# Altium footprint library FP-Mechanical.PcbLib: 31 footprints (part 2 of 2)
Each footprint in its own frame and in the unit in brackets; x right, y up, seen from the top. Pads: shape width x height; smd on the part's side, far side on the other; paste and mask are expansions set on the pad; w line width, h text height; cw(c..) or ccw(c..) is an arc to the next point about the centre after c.
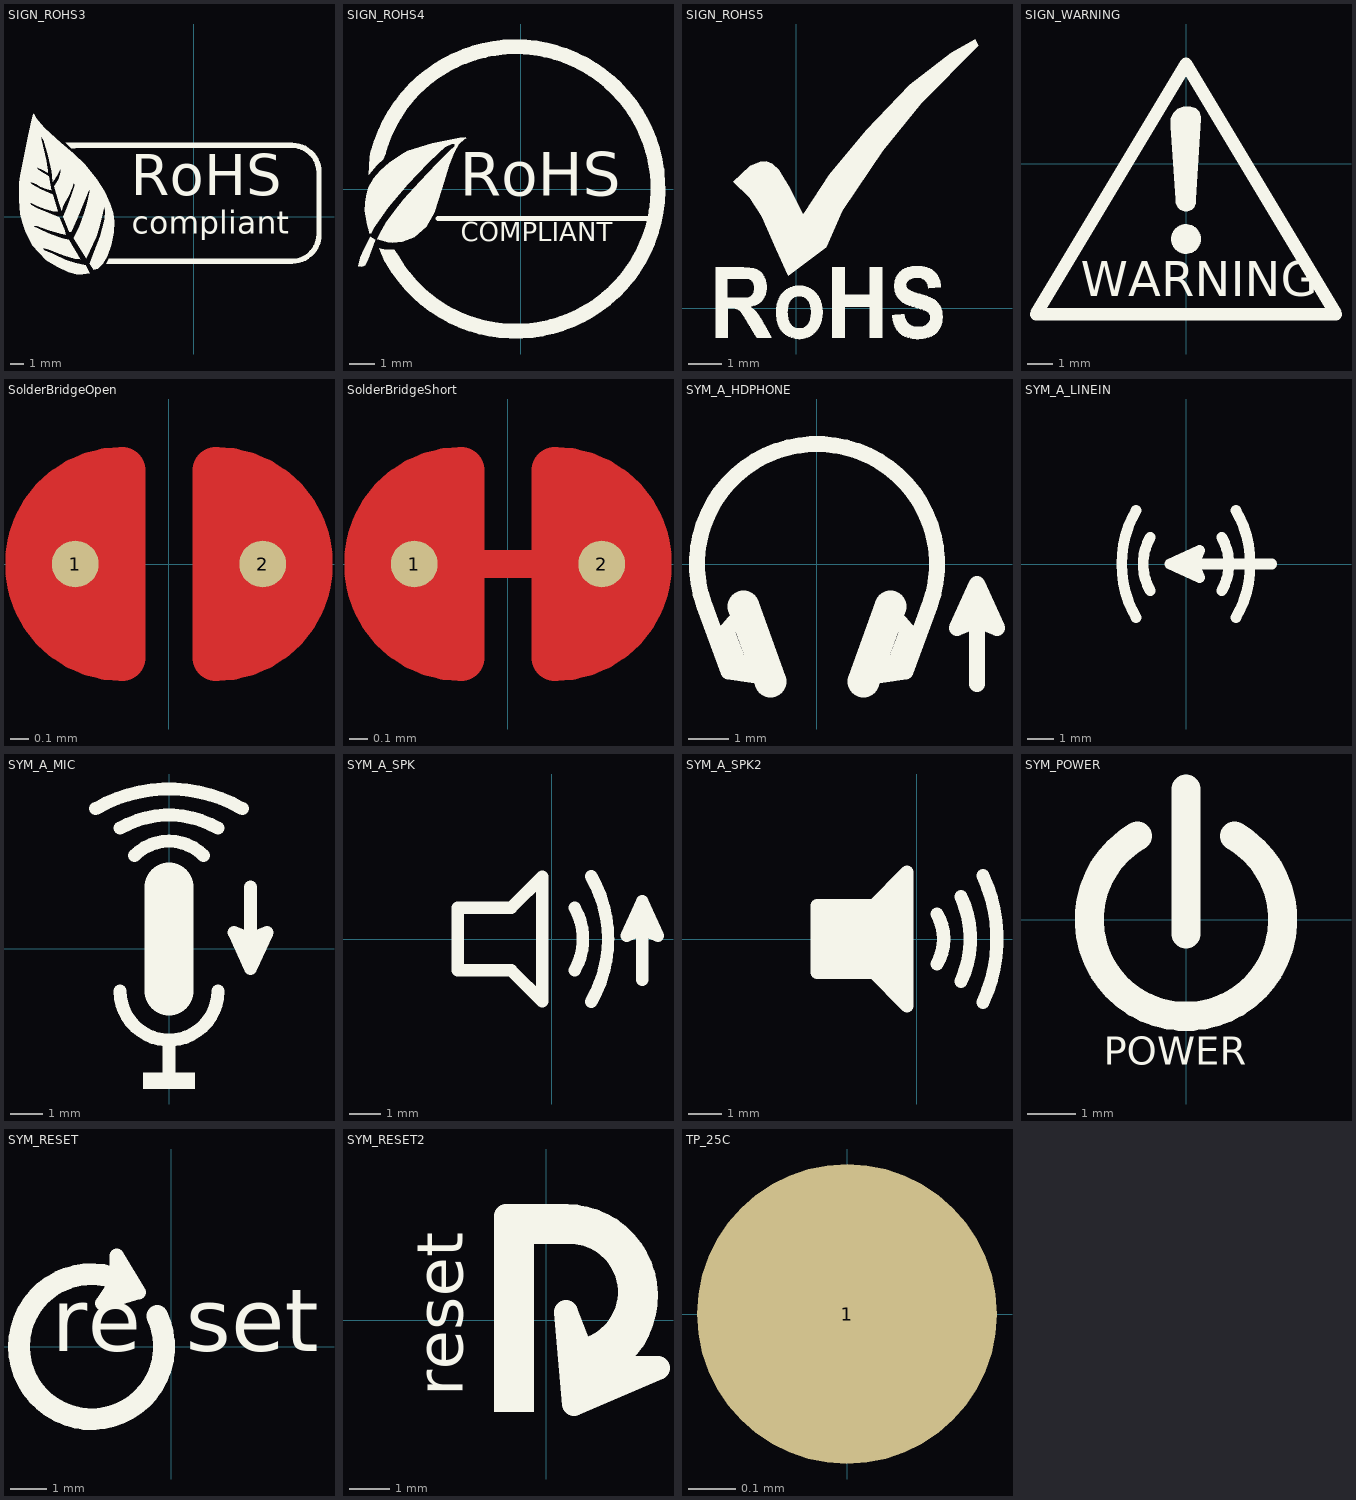
[diagram p1: the footprints below, top view; thin cyan lines are the x and y axes]

## SIGN_ROHS3 [mil] "SIGN, ROHS Compliant, 22.5X12mm"
Top Overlay:
  drawing of 8 lines, arcs and shapes, not listed
  text "RoHS" at -183.46,23.62 h204.72
  text "compliant" at -181.1,-70.87 h114.17

## SIGN_ROHS4 [mil] "SIGN, ROHS Compliant, 12X12mm"
Top Overlay:
  region: -212.6,57.48 -216.54,47.24 -226.77,37.8 -239.37,22.83 -237.8,50.39 -236.22,60.63
  region: -192.13,-106.3 -199.21,-96.06 -206.3,-96.06 -215.75,-95.28 -222.83,-93.7 -214.17,-114.96 -208.66,-119.69
  region: -229.13,-80.31 -237.01,-75.59 -246.46,-94.49 -252.76,-108.66 -256.69,-122.05 -251.18,-122.83 -248.03,-122.05 -244.88,-120.47 -240.94,-112.6
  region: -225.98,-79.53 -209.45,-84.25 -201.57,-85.04 -186.61,-83.46 -167.72,-76.38 -148.82,-59.84 -136.22,-37.8 -124.41,0 -112.6,38.58 -104.72,58.27 -97.64,70.87 -88.98,78.74 -85.83,80.31 -86.61,81.89 -96.06,81.1 -139.37,72.44 -177.95,60.63 -187.4,55.12 -206.3,42.52 -221.26,29.13 -231.5,17.32 -240.16,2.36 -243.31,-11.81 -244.88,-22.05 -245.67,-34.65 -241.73,-56.69 -237.8,-70.87 -235.43,-70.08 -230.71,-60.63 -208.66,-29.13 -177.95,7.87 -146.46,40.94 -129.13,57.48 -119.69,66.14 -109.45,70.87 -106.3,71.65 -104.72,71.65 -103.94,70.87 -103.94,68.5 -104.72,66.93 -110.24,62.2 -131.5,40.94 -159.06,11.81 -184.25,-16.54 -198.43,-34.65 -211.81,-52.76 -222.05,-70.87
  lines w7.87: -130.61,-46.84 204.26,-46.84
  lines w23.62: -224.64,58.08 cw(c-7.87,0) -202.22,-112.2
  text "COMPLIANT" at -94.49,-92.91 h51.18
  text "RoHS" at -96.06,-33.86 h118.11

## SIGN_ROHS5 [mil] "SIGN, ROHS Compliant, 12X12mm"
Top Overlay:
  drawing of 5 lines, arcs and shapes, not listed

## SIGN_WARNING [mil] "SIGN, WARNING, 12X12mm"
Top Overlay:
  circle w7.87: c0,-118.11 r19.68
  region: 0,-98.43 -3.92,-98.43 -11.15,-101.42 -16.69,-106.96 -19.68,-114.19 -19.68,-118.11 -19.68,-122.03 -16.69,-129.26 -11.15,-134.8 -3.92,-137.8 0,-137.8 3.92,-137.8 11.15,-134.8 16.69,-129.26 19.68,-122.03 19.68,-118.11 19.68,-114.19 16.69,-106.96 11.15,-101.42 3.92,-98.43
  region: -15.75,-55.12 -23.62,59.05 -23.62,66.93 -23.62,71.63 -20.03,80.31 -13.38,86.95 -4.7,90.55 0,90.55 3.94,90.55 7.85,90.55 15.09,87.55 20.62,82.02 23.62,74.78 23.62,70.87 15.75,-55.12 15.75,-59.06 15.75,-62.19 13.35,-67.98 8.92,-72.41 3.13,-74.8 0,-74.8 -3.13,-74.8 -8.92,-72.41 -13.35,-67.98 -15.75,-62.19 -15.75,-59.06
  lines w19.68: -236.22,-236.22 0,157.48 236.22,-236.22 -236.22,-236.22
  text "WARNING" at -165.35,-208.66 h55.12

## SolderBridgeOpen [mil]
pads (2):
  round 10 smd mask+0: 1(-20,0) 2(20,0)
Top Layer:
  region: 10,20 13.98,20 21.33,16.96 26.96,11.33 30,3.98 30,0 30,-3.98 26.96,-11.33 21.33,-16.96 13.98,-20 10,-20
  region: -10,20 -13.98,20 -21.33,16.96 -26.96,11.33 -30,3.98 -30,0 -30,-3.98 -26.96,-11.33 -21.33,-16.96 -13.98,-20 -10,-20
  lines w10: -10,-20 cw(c-10,0) -10,20 -10,-20 ; 10,-20 ccw(c10,0) 10,20 10,-20
Top Solder:
  rectangle: -20,-20 20,20
  region: 10,20 13.98,20 21.33,16.96 26.96,11.33 30,3.98 30,0 30,-3.98 26.96,-11.33 21.33,-16.96 13.98,-20 10,-20
  region: -10,20 -13.98,20 -21.33,16.96 -26.96,11.33 -30,3.98 -30,0 -30,-3.98 -26.96,-11.33 -21.33,-16.96 -13.98,-20 -10,-20
  lines w10: -10,-22 cw(c-10,0) -10,22 10,22 cw(c10,0) 10,-22 -10,-22

## SolderBridgeShort [mil]
pads (2):
  round 10 smd mask+0: 1(-20,0) 2(20,0)
Top Layer:
  region: 10,20 13.98,20 21.33,16.96 26.96,11.33 30,3.98 30,0 30,-3.98 26.96,-11.33 21.33,-16.96 13.98,-20 10,-20
  region: -10,20 -13.98,20 -21.33,16.96 -26.96,11.33 -30,3.98 -30,0 -30,-3.98 -26.96,-11.33 -21.33,-16.96 -13.98,-20 -10,-20
  lines w6: -10,0 10,0
  lines w10: -10,-20 cw(c-10,0) -10,20 -10,-20 ; 10,-20 ccw(c10,0) 10,20 10,-20
Top Solder:
  rectangle: -20,-20 20,20
  region: 10,20 13.98,20 21.33,16.96 26.96,11.33 30,3.98 30,0 30,-3.98 26.96,-11.33 21.33,-16.96 13.98,-20 10,-20
  region: -10,20 -13.98,20 -21.33,16.96 -26.96,11.33 -30,3.98 -30,0 -30,-3.98 -26.96,-11.33 -21.33,-16.96 -13.98,-20 -10,-20
  lines w10: -10,-22 cw(c-10,0) -10,22 10,22 cw(c10,0) 10,-22 -10,-22

## SYM_A_HDPHONE [mil] "Symbol, Audio, HeadPhone"
Top Overlay:
  lines w15.75: -97.97,-76.15 -71.17,-45.44 ; -88.91,-65.77 -74.52,-105.32 ; -46.94,-112.04 -87.2,-105.74 -110.99,-40.4 cw(c0,0) 110.99,-40.4 87.2,-105.74 46.94,-112.04 ; 71.17,-45.44 97.97,-76.15 ; 74.52,-105.32 88.91,-65.77 ; 157.48,-118.11 157.48,-19.69 ; 157.48,-19.69 177.17,-62.99 157.48,-55.12 137.8,-62.99 157.48,-19.69
  lines w31.5: -72.52,-41.74 -45.59,-115.74 ; 45.59,-115.74 72.52,-41.74

## SYM_A_LINEIN [mil] "Symbol, Audio, LineIN"
Top Overlay:
  lines w15.75: -73.39,-78.74 cw(c62.99,0) -73.39,78.74 ; -52.44,-39.37 cw(c15.75,0) -52.44,39.37 ; 52.44,-39.37 ccw(c-15.75,0) 52.44,39.37 ; 73.39,-78.74 ccw(c-62.99,0) 73.39,78.74 ; 125.98,0 -23.62,0 ; -23.62,0 19.69,19.69 11.81,0 19.69,-19.69 -23.62,0

## SYM_A_MIC [mil] "Symbol, Audio, Microphone, 6X9.5mm"
Top Overlay:
  rectangle: -31.5,-169.29 31.5,-149.61
  lines w15.75: -88.58,169.18 cw(c0,15.75) 88.58,169.18 ; -59.06,-51.18 ccw(c0,-51.18) 59.06,-51.18 ; -59.06,145.59 cw(c0,43.31) 59.06,145.59 ; -41.76,112.62 cw(c0,70.87) 41.76,112.62 ; 0,-149.61 0,-110.24 ; 98.43,74.8 98.43,-23.62 ; 98.43,-23.62 78.74,19.69 98.43,11.81 118.11,19.69 98.43,-23.62
  lines w59.06: 0,-51.18 0,74.8

## SYM_A_SPK [mil] "Symbol, Audio, Speaker"
Top Overlay:
  lines w15.75: 28.82,-39.37 ccw(c-39.37,0) 28.82,39.37 ; 49.77,-78.74 ccw(c-86.61,0) 49.77,78.74 ; 114.17,-51.18 114.17,47.24 ; 114.17,47.24 133.86,3.94 114.17,11.81 94.49,3.94 114.17,47.24 ; -118.11,-39.37 -51.18,-39.37 -11.81,-78.74 -11.81,78.74 -51.18,39.37 -118.11,39.37 -118.11,-39.37

## SYM_A_SPK2 [mil] "Symbol, Audio, Speaker Full"
Top Overlay:
  region: -11.81,78.74 -51.18,39.37 -118.11,39.37 -118.11,-39.37 -51.18,-39.37 -11.81,-78.74
  lines w15.75: 23.58,-29.53 ccw(c-27.56,0) 23.58,29.53 ; 51.93,-49.92 ccw(c-55.12,0) 51.93,49.92 ; 77.89,-74.87 ccw(c-82.68,0) 77.89,74.87 ; -118.11,-39.37 -51.18,-39.37 -11.81,-78.74 -11.81,78.74 -51.18,39.37 -118.11,39.37 -118.11,-39.37

## SYM_POWER [mil] "Symbol, POWER, 4.6X6.3mm"
Top Overlay:
  lines w23.62: -39.37,68.19 ccw(c0,0) 39.37,68.19 ; 0,-11.81 0,106.3
  text "POWER" at -66.93,-125.98 h39.37

## SYM_RESET [mil] "Symbol, RESET, 8.8x5mm"
Top Overlay:
  lines w15.75: -74.8,47.24 -35.43,59.06 -59.05,98.43 -59.05,70.87 -74.8,47.24
  lines w23.62: -47.24,68.19 ccw(c-86.61,0) -15.25,33.28
  text "re" at -129.92,-27.56 h118.11
  text "set" at 15.75,-27.56 h118.11

## SYM_RESET2 [mil] "Symbol, RESET, 5.4x6.3mm"
Top Overlay:
  region: -51.18,-90.55 -51.18,82.68 -11.81,82.68 -11.81,-90.55
  lines w23.62: -39.37,-78.74 -39.37,102.36 19.68,102.36 cw(c19.68,23.62) 59.06,-44.57 ; -31.5,86.61 27.56,86.61 ; 23.62,-31.5 ccw(c23.62,27.56) 23.62,86.61 ; 47.24,-62.99 19.68,7.87 27.56,-82.68 110.24,-47.24 51.18,-47.24
  text "reset" at -66.93,-74.8 h78.74

## TP_25C [mil]
pads (1):
  round 25 smd paste-25 mask+2: 1(0,0)